# EAGLE library part LM3575IN (library wheat)
IC, BUCK REG, LM2575, DIP16
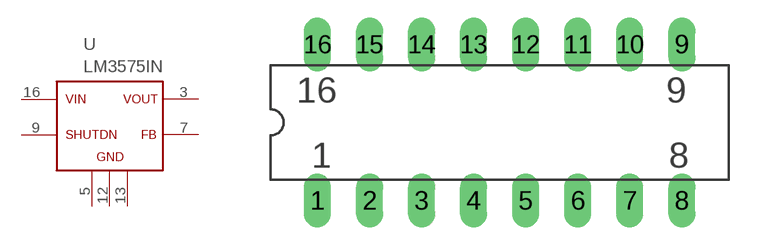
[diagram p53: symbol with the pads of DIP16; footprint DIP16]

Designator prefix U

## LM3575IN  [DIP16]
3  OUT  pas
5  GND1  pas
7  FB  pas
9  SD  pas
12  GND2  pas
13  GND3  pas
16  IN  pas

## Footprint DIP16 (pad centres in mm)
DIP16 .3LS
drill 0.813 long: 1 0,0; 2 2.54,0; 3 5.08,0; 4 7.62,0; 5 10.16,0; 6 12.7,0; 7 15.24,0; 8 17.78,0; 9 17.78,7.62; 10 15.24,7.62; 11 12.7,7.62; 12 10.16,7.62; 13 7.62,7.62; 14 5.08,7.62; 15 2.54,7.62; 16 0,7.62